# Altium footprint library PCB_oled_2021-07-06.PcbLib: 6 footprints
Each footprint in its own frame and in the unit in brackets; x right, y up, seen from the top. Pads: shape width x height; smd on the part's side, far side on the other; paste and mask are expansions set on the pad; w line width, h text height; cw(c..) or ccw(c..) is an arc to the next point about the centre after c.
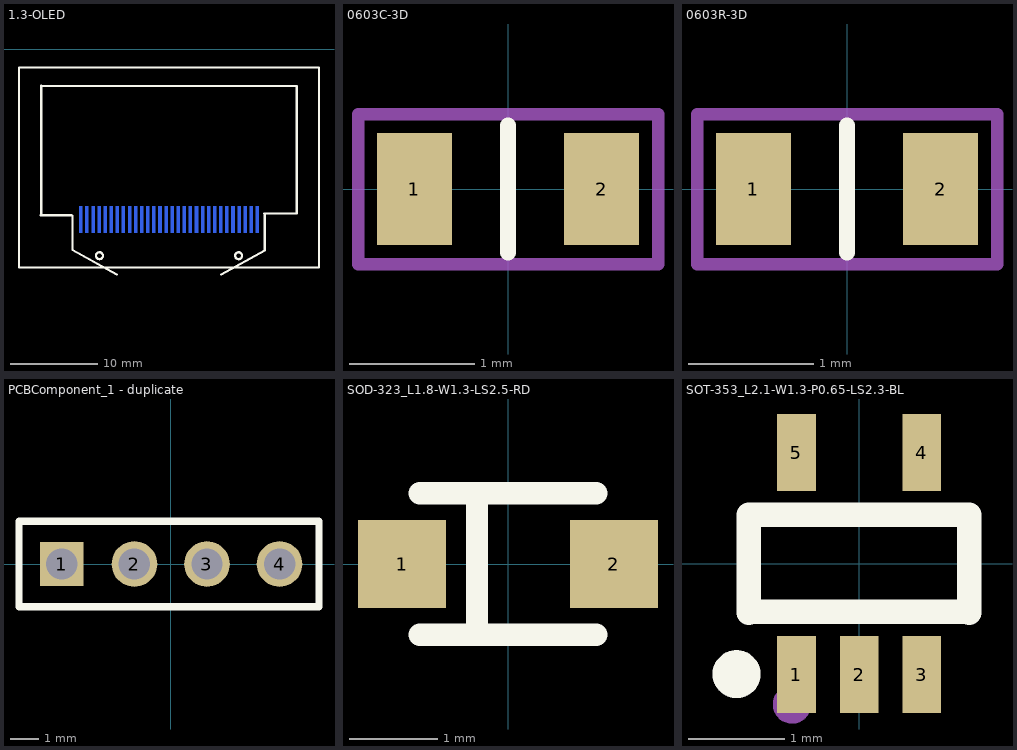
[diagram p0: the footprints below, top view; thin cyan lines are the x and y axes]

## 1.3-OLED [mm]
pads (30):
  rect 0.351x3 smd far side: 1(14.079,-19.6) 2(14.783,-19.597) 3(15.484,-19.597) 4(16.183,-19.597) 5(16.884,-19.597) 6(17.585,-19.597) 7(18.283,-19.597) 8(18.984,-19.597) 9(19.683,-19.597) 10(20.384,-19.597) 11(21.082,-19.597) 12(21.783,-19.597) 13(22.484,-19.597) 14(23.183,-19.597) 15(23.884,-19.597) 16(24.582,-19.597) 17(25.283,-19.597) 18(25.984,-19.597) 19(26.683,-19.597) 20(27.384,-19.597) 21(28.082,-19.597) 22(28.784,-19.597) 23(29.485,-19.597) 24(30.183,-19.597) 25(30.884,-19.597) 26(31.583,-19.597) 27(32.284,-19.597) 28(32.977,-19.597) 29(33.678,-19.595) 30(34.377,-19.595)
Top Overlay:
  circle w0.254: c32.22,-23.759 r0.399
  circle w0.254: c16.221,-23.759 r0.399
  lines w0.254: 9.472,-19.117 12.972,-19.112 ; 9.521,-19.062 9.52,-4.209 9.52,-4.259 38.921,-4.259 38.921,-18.908 35.177,-18.912 ; 13.119,-19.159 13.119,-23.058 13.119,-23.109 18.22,-25.908 ; 30.221,-25.908 35.22,-23.157 ; 35.22,-23.109 35.22,-19.577 35.227,-18.912 ; 6.97,-25.108 6.97,-2.108 41.47,-2.108 41.47,-25.108 6.97,-25.108
Bottom Overlay:
  lines w0.254: 34.82,-19.158 35.22,-19.158 ; 13.533,-17.221 14.59,-17.221 14.061,-17.75 14.02,-17.708 13.533,-17.221
Bottom Solder:
  lines w0.254: 13.005,-30.068 cw(c13.032,-29.093) 13.005,-28.118 ; 13.055,-30.068 35.355,-30.068 ; 13.055,-28.118 35.355,-28.118 ; 35.355,-30.068 ccw(c35.328,-29.093) 35.355,-28.118
Mechanical 15:
  lines w0.102: 21.698,-25.095 27.798,-25.095

## 0603C-3D [mil]
pads (2):
  rect 23.6x35.4 smd: 1(-29.5,0) 2(29.5,0)
Top Overlay:
  lines w5: 0,-20 0,20
Mechanical 15:
  lines w3.94: -47.24,-23.62 47.24,-23.62 47.24,23.62 -43.31,23.62 -47.24,23.62 -47.24,-23.62

## 0603R-3D [mil]
pads (2):
  rect 23.6x35.4 smd: 1(-29.5,0) 2(29.5,0)
Top Overlay:
  lines w5: 0,-20 0,20
Mechanical 15:
  lines w3.94: -47.24,-23.62 -47.24,23.62 -43.31,23.62 47.24,23.62 47.24,-23.62 -47.24,-23.62

## PCBComponent_1 - duplicate [mm]
pads (4):
  rect 1.524x1.524 hole 1.1: 1(-3.81,0)
  round 1.6 hole 1.1: 2(-1.27,0) 3(1.27,0) 4(3.81,0)
Top Overlay:
  lines w0.254: -5.31,-1.5 5.19,-1.5 5.19,1.5 -5.31,1.5 -5.31,-1.5

## SOD-323_L1.8-W1.3-LS2.5-RD [mm]
pads (2):
  rect 1x1 smd: 1(-1.2,0) 2(1.2,0)
Top Overlay:
  lines w0.254: -1,-0.8 1,-0.8 ; -1,0.8 1,0.8 ; -0.351,-0.8 -0.351,0.8

## SOT-353_L2.1-W1.3-P0.65-LS2.3-BL [mm]
pads (5):
  rect 0.4x0.8 smd: 1(-0.65,-1.15) 2(0,-1.15) 3(0.65,-1.15) 4(0.65,1.15) 5(-0.65,1.15)
Top Overlay:
  lines w0.249: -1.273,-1.27 cw(c-1.271,-1.146) -1.27,-1.27
  lines w0.254: -1.143,-0.508 -1.143,0.508 1.143,0.508 1.143,-0.508 ; -1.1,-0.5 1.1,-0.5
Mechanical 15:
  circle w0.2: c-0.695,-1.459 r0.1